# EAGLE library part 1734839-8 (library FPC_8_0.5)
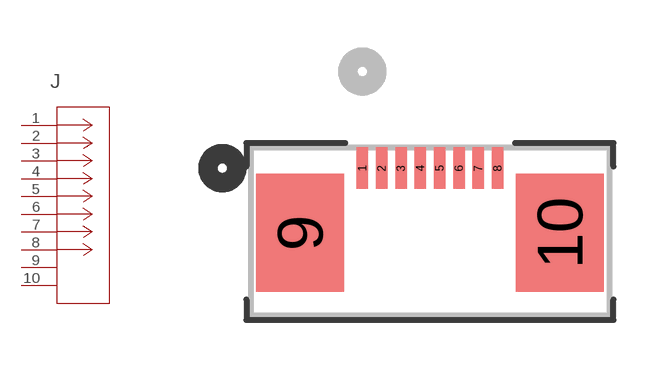
[diagram p0: symbol with the pads of CONN8_1734839-8_TEC; footprint CONN8_1734839-8_TEC]

Designator prefix J

## 1734839-8 (BUILT_BY: Digital_Papaya_Team; COPYRIGHT: Copyright (C) 2016 Accelerated Designs. All rights reserved; DATASHEET: https://www.te.com/commerce/DocumentDelivery/DDEController?Action=srchrtrv&DocNm=1734839&DocType=Customer+Drawing&DocLang=English&DocFormat=pdf&PartCntxt=1-1734839-6; DESCRIPTION: FPC CONN. 0.5MM PITCH T/C,8P; MANUFACTURER_PART_NUMBER: 1734839-8; PITCH_MM_: 0.5; POSITIONS: 8; PRODUCT: Connector; ROWS-CONFIG: 1; SOURCELIBRARY: TE_Connectivity_250_Part_Delivery_5_2018-09-10; TE_PART_NUMBER: 1734839-8; TYPE: Receptacle; VENDOR: TE Connectivity)  [CONN8_1734839-8_TEC]
1  1  pas
2  2  pas
3  3  pas
4  4  pas
5  5  pas
6  6  pas
7  7  pas
8  8  pas
9  9  pas
10  10  pas

## Footprint CONN8_1734839-8_TEC (pad centres in mm)
smd 0.305 x 1.092: 1 -1.778,0; 2 -1.27,0; 3 -0.762,0; 4 -0.254,0; 5 0.254,0; 6 0.762,0; 7 1.27,0; 8 1.778,0
smd 2.311 x 3.099: 9 -3.416,-1.702; 10 3.416,-1.702